# Altium footprint library Signal_Generator.PcbLib: 7 footprints
Each footprint in its own frame and in the unit in brackets; x right, y up, seen from the top. Pads: shape width x height; smd on the part's side, far side on the other; paste and mask are expansions set on the pad; w line width, h text height; cw(c..) or ccw(c..) is an arc to the next point about the centre after c.
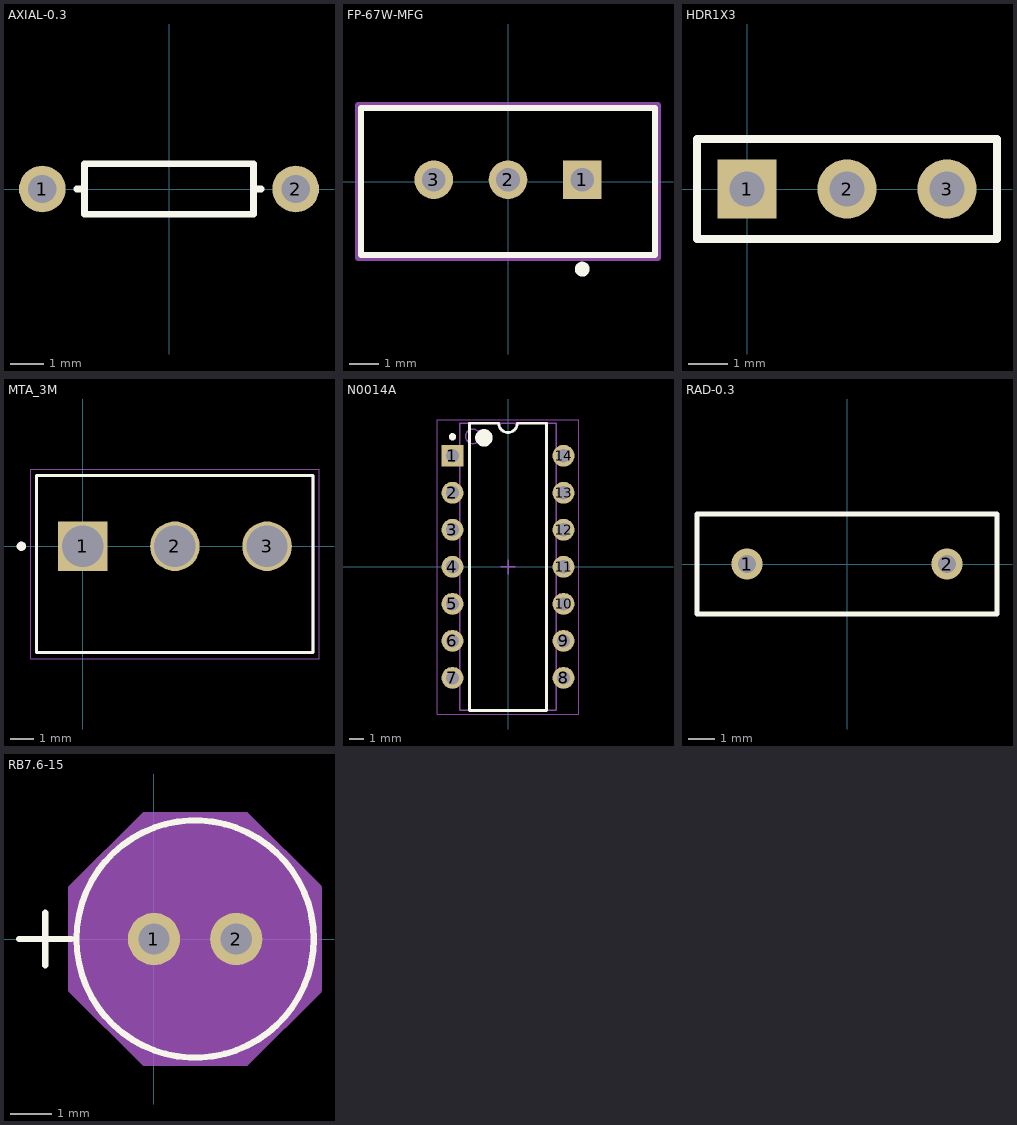
[diagram p0: the footprints below, top view; thin cyan lines are the x and y axes]

## AXIAL-0.3 [mm] "Axial Device, Thru-Hole; 2 Leads; 0.3 in Pin Spacing"
height 1.524
pads (2):
  round 1.4 hole 0.85: 1(-3.81,0) 2(3.81,0)
Top Overlay:
  lines w0.2: -2.769,0 -2.54,0 ; 2.769,0 2.54,0 ; 2.54,0 2.54,-0.762 -2.54,-0.762 -2.54,0.762 2.54,0.762 2.54,0

## FP-67W-MFG [mm]
pads (3):
  rect 1.3x1.3 hole 0.8 paste-2539.97 mask+0: 1(2.5,0.065)
  round 1.3 hole 0.8 paste-2539.97 mask+0: 2(0,0.065) 3(-2.5,0.065)
Top Overlay:
  circle w0.25: c2.5,-2.95 r0.125
  lines w0.2: -4.955,-2.475 -4.955,2.475 4.955,2.475 4.955,-2.475 -4.955,-2.475
Top Assembly:
  lines w0.2: -5.055,-2.575 -5.055,2.575 5.055,2.575 5.055,-2.575 -5.055,-2.575
  text ".Designator" at 0,-0.001 h1
Top 3D Body:
  lines w0.2: -4.955,-2.475 -4.955,2.475 4.955,2.475 4.955,-2.475 -4.955,-2.475
Top Courtyard:
  lines w0.2: -5.055,-2.575 -5.055,2.575 5.055,2.575 5.055,-2.575 -5.055,-2.575
Top Component Center:
  lines w0.1: -0.5,0 0.5,0 ; 0,-0.5 0,0.5
3D body "Res_BI_Technologies_67WR100KLF_eec.STEP": height 0.25, standoff 0, extent -5.055,-2.575 5.055,2.575

## HDR1X3 [mm] "Connector; Header; 3 Position"
pads (3):
  rect 1.5x1.5 hole 0.9: 1(0,0)
  round 1.5 hole 0.9: 2(2.54,0) 3(5.08,0)
Top Overlay:
  lines w0.2: -1.27,-1.27 6.35,-1.27 6.35,1.27 -1.27,1.27 -1.27,-1.27

## MTA_3M [mil]
pads (3):
  rect 83.78x83.78 / inner round 83.78 / far side rect 83.78x83.78 hole 70 mask+4.02: 1(0,0)
  round 83.78 hole 70 mask+4.02: 2(155.91,0) 3(311.81,0)
Top Overlay:
  circle w7.87: c-103.58,0 r3.94
  lines w5: -77.99,-180 389.8,-180 389.8,120 -77.99,120 -77.99,-180
Top 3D Body:
  circle w7.87: c-103.58,0 r3.94
  lines w5: -77.99,-180 -77.99,120 ; -77.99,-180 389.8,-180 ; -77.99,-180 -77.99,120 ; -77.99,120 389.8,120 ; -77.99,120 389.8,120 ; 389.8,-180 389.8,120 ; 389.8,-180 389.8,120
Top Courtyard:
  lines w1.97: -87.83,-189.84 399.65,-189.84 399.65,129.84 -87.83,129.84 -87.83,-189.84
3D body "step_temp.STEP": height 525.5, standoff -124.5, extent -78.19,-180.5 389.81,119.5

## N0014A [mm] "DIP, 14-Leads, Body 19.7x6.6mm, Pitch 2.54mm"
height 5.08
pads (14):
  rect 1.5x1.5 hole 0.9: 1(-3.81,7.62)
  round 1.5 hole 0.9: 2(-3.81,5.08) 3(-3.81,2.54) 4(-3.81,0) 5(-3.81,-2.54) 6(-3.81,-5.08) 7(-3.81,-7.62) 8(3.81,-7.62) 9(3.81,-5.08) 10(3.81,-2.54) 11(3.81,0) 12(3.81,2.54) 13(3.81,5.08) 14(3.81,7.62)
Top Overlay:
  circle w0.6: c-1.65,8.85 r0.3
  circle w0.25: c-3.81,8.92 r0.125
  lines w0.2: -2.65,-9.85 2.65,-9.85 2.65,9.85 0.635,9.85 cw(c0,9.85) -0.635,9.85 -2.65,9.85 -2.65,-9.85
Mechanical 1:
  text ".Designator" at -3.048,-0.508 h1.2
Top 3D Body:
  circle w0.1: c-2.4,8.95 r0.5
  lines w0.1: -3.3,-9.85 3.3,-9.85 3.3,9.85 -3.3,9.85 -3.3,-9.85
Top Courtyard:
  lines w0.05: -4.85,-10.1 4.85,-10.1 4.85,10.1 -4.85,10.1 -4.85,-10.1
  lines w0.1: -0.5,0 0.5,0 ; 0,-0.5 0,0.5
3D body: height 5.08, standoff 0.51, extent -3.3,-9.85 3.3,9.85
3D body: height 0, standoff -1.6, extent 3.675,7.26 3.945,7.98
3D body: height 2.93, standoff 2.66, extent 3.3,7.12 3.945,8.12
3D body: height 2.66, standoff 0, extent 3.675,7.12 3.945,8.12
3D body: height 0, standoff -1.6, extent 3.675,4.72 3.945,5.44
3D body: height 2.93, standoff 2.66, extent 3.3,4.58 3.945,5.58
3D body: height 2.66, standoff 0, extent 3.675,4.58 3.945,5.58
3D body: height 0, standoff -1.6, extent 3.675,2.18 3.945,2.9
3D body: height 2.93, standoff 2.66, extent 3.3,2.04 3.945,3.04
3D body: height 2.66, standoff 0, extent 3.675,2.04 3.945,3.04
3D body: height 0, standoff -1.6, extent 3.675,-0.36 3.945,0.36
3D body: height 2.93, standoff 2.66, extent 3.3,-0.5 3.945,0.5
3D body: height 2.66, standoff 0, extent 3.675,-0.5 3.945,0.5
3D body: height 0, standoff -1.6, extent 3.675,-2.9 3.945,-2.18
3D body: height 2.93, standoff 2.66, extent 3.3,-3.04 3.945,-2.04
3D body: height 2.66, standoff 0, extent 3.675,-3.04 3.945,-2.04
3D body: height 0, standoff -1.6, extent 3.675,-5.44 3.945,-4.72
3D body: height 2.93, standoff 2.66, extent 3.3,-5.58 3.945,-4.58
3D body: height 2.66, standoff 0, extent 3.675,-5.58 3.945,-4.58
3D body: height 0, standoff -1.6, extent 3.675,-7.98 3.945,-7.26
3D body: height 2.93, standoff 2.66, extent 3.3,-8.12 3.945,-7.12
3D body: height 2.66, standoff 0, extent 3.675,-8.12 3.945,-7.12
3D body: height 0, standoff -1.6, extent -3.945,-7.98 -3.675,-7.26
3D body: height 2.93, standoff 2.66, extent -3.945,-8.12 -3.3,-7.12
3D body: height 2.66, standoff 0, extent -3.945,-8.12 -3.675,-7.12
3D body: height 0, standoff -1.6, extent -3.945,-5.44 -3.675,-4.72
3D body: height 2.93, standoff 2.66, extent -3.945,-5.58 -3.3,-4.58
3D body: height 2.66, standoff 0, extent -3.945,-5.58 -3.675,-4.58
3D body: height 0, standoff -1.6, extent -3.945,-2.9 -3.675,-2.18
3D body: height 2.93, standoff 2.66, extent -3.945,-3.04 -3.3,-2.04
3D body: height 2.66, standoff 0, extent -3.945,-3.04 -3.675,-2.04
3D body: height 0, standoff -1.6, extent -3.945,-0.36 -3.675,0.36
3D body: height 2.93, standoff 2.66, extent -3.945,-0.5 -3.3,0.5
3D body: height 2.66, standoff 0, extent -3.945,-0.5 -3.675,0.5
3D body: height 0, standoff -1.6, extent -3.945,2.18 -3.675,2.9
3D body: height 2.93, standoff 2.66, extent -3.945,2.04 -3.3,3.04
3D body: height 2.66, standoff 0, extent -3.945,2.04 -3.675,3.04
3D body: height 0, standoff -1.6, extent -3.945,4.72 -3.675,5.44
3D body: height 2.93, standoff 2.66, extent -3.945,4.58 -3.3,5.58
3D body: height 2.66, standoff 0, extent -3.945,4.58 -3.675,5.58
3D body: height 0, standoff -1.6, extent -3.945,7.26 -3.675,7.98
3D body: height 2.93, standoff 2.66, extent -3.945,7.12 -3.3,8.12
3D body: height 2.66, standoff 0, extent -3.945,7.12 -3.675,8.12

## RAD-0.3 [mm] "Radial Cap, Thru-Hole; 2 Leads; 0.3 in Pin Spacing"
height 6
pads (2):
  round 1.2 hole 0.7: 1(-3.81,0) 2(3.81,0)
Top Overlay:
  lines w0.2: -5.715,-1.905 5.715,-1.905 5.715,1.905 -5.715,1.905 -5.715,-1.905

## RB7.6-15 [mil] "Polarized Capacitor (Radial); 2 Leads"
pads (2):
  round 50 hole 30 paste-99999 mask+0: 1(0,0) 2(78.74,0)
Top Overlay:
  circle w6: c39.37,0 r113.5
  lines w6: -129.13,0 -79.13,0 ; -104.13,-25 -104.13,25
  text ".Designator" at -105,125 h50
Top 3D Body:
  circle w1: c39.37,0 r108.5
  lines w1: -129.13,0 -79.13,0 ; -104.13,-25 -104.13,25
Top Courtyard:
  region: -79.13,48.79 -9.42,118.5 88.16,118.5 157.87,48.79 157.87,-48.79 88.16,-118.5 -9.42,-118.5 -79.13,-48.79
  lines w6: -79.13,-48.79 -9.42,-118.5 88.16,-118.5 157.87,-48.79 157.87,48.79 88.16,118.5 -9.42,118.5 -79.13,48.79 -79.13,-48.79
3D body "CAP_YX_5X11_RUB.step": height 492.6, standoff -160, extent -69.13,-108.38 149.03,108.38